# Altium schematic symbol library LED5730.SchLib: 1 symbol
Pins are listed as number, name and electrical type; pins without a type are passive.

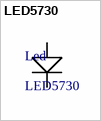
[diagram p0: symbol LED5730]

## LED5730
designator Led
footprint LED5730
pins: 0, 1